# Altium schematic symbol library ESD5341N.SchLib: 2 symbols
Pins are listed as number, name and electrical type; pins without a type are passive.

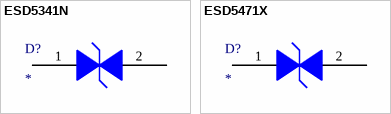
[diagram p0: symbols ESD5341N to ESD5471X]

## ESD5341N
designator D?
No Description Available; Mfr_Name: Tech Public; RefDes: RefDes; Type: Type
footprint DFN1006-2_0402_TCP
pins: 1 I/O, 2 GND

## ESD5471X
designator D?
No Description Available; Mfr_Name: Tech Public; RefDes: RefDes; Type: Type
footprint DFN1006-2_0402_TCP
pins: 1 I/O, 2 GND